# Altium footprint library Altium LCOGT PCB LIB.PCBLIB: 329 footprints (part 13 of 21)
Each footprint in its own frame and in the unit in brackets; x right, y up, seen from the top. Pads: shape width x height; smd on the part's side, far side on the other; paste and mask are expansions set on the pad; w line width, h text height; cw(c..) or ccw(c..) is an arc to the next point about the centre after c.
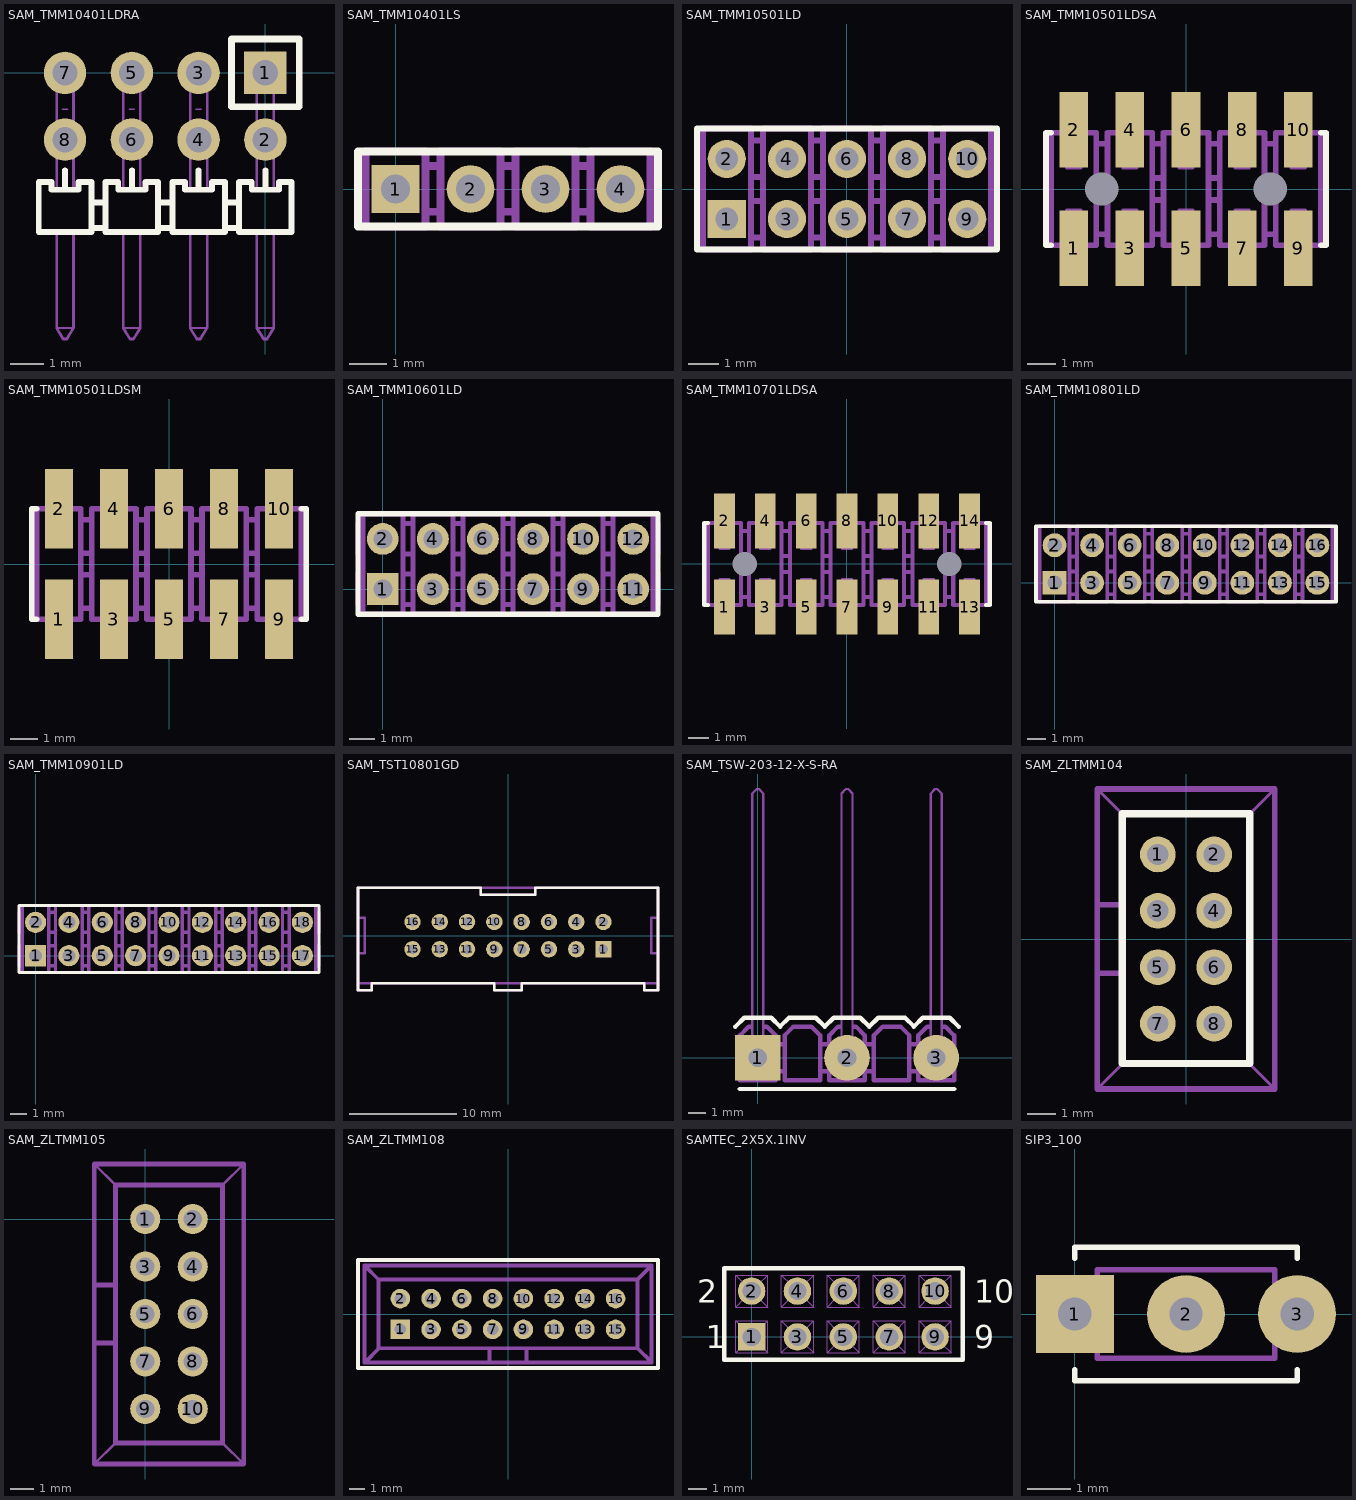
[diagram p12: the footprints below, top view; thin cyan lines are the x and y axes]

## SAM_TMM10401LDRA [mm]
pads (8):
  rect 1.27x1.27 hole 0.762: 1(0,0)
  round 1.27 hole 0.762: 2(0,-2) 3(-2,0) 4(-2,-2) 5(-4,0) 6(-4,-2) 7(-6,0) 8(-6,-2)
TopOverlay:
  lines w0.178: -6,-3.499 -6,-2.914 ; -5.213,-4.642 -4.791,-4.642 ; -5.213,-3.88 -4.791,-3.88 ; -4,-3.499 -4,-2.914 ; -3.213,-4.642 -2.791,-4.642 ; -3.213,-3.88 -2.791,-3.88 ; -2,-3.499 -2,-2.914 ; -1.213,-4.642 -0.791,-4.642 ; -1.213,-3.88 -0.791,-3.88 ; 0,-3.499 0,-2.914 ; -6.787,-4.769 -5.213,-4.769 -5.213,-3.27 -5.594,-3.27 -5.594,-3.499 -6.406,-3.499 -6.406,-3.27 -6.787,-3.27 -6.787,-4.769 ; -4.787,-4.769 -3.213,-4.769 -3.213,-3.27 -3.594,-3.27 -3.594,-3.499 -4.406,-3.499 -4.406,-3.27 -4.787,-3.27 -4.787,-4.769 ; -2.787,-4.769 -1.213,-4.769 -1.213,-3.27 -1.594,-3.27 -1.594,-3.499 -2.406,-3.499 -2.406,-3.27 -2.787,-3.27 -2.787,-4.769 ; -0.787,-4.769 0.787,-4.769 0.787,-3.27 0.406,-3.27 0.406,-3.499 -0.406,-3.499 -0.406,-3.27 -0.787,-3.27 -0.787,-4.769
  lines w0.203: -1.016,-1.016 -1.016,1.016 1.016,1.016 1.016,-1.016 -1.016,-1.016
Mechanical3:
  lines w0.051: -6.254,-7.639 -5.746,-7.639 ; -6.076,-1.086 -5.924,-1.086 ; -4.254,-7.639 -3.746,-7.639 ; -4.076,-1.086 -3.924,-1.086 ; -2.254,-7.639 -1.746,-7.639 ; -2.076,-1.086 -1.924,-1.086 ; -0.254,-7.639 0.254,-7.639 ; -0.076,-1.086 0.076,-1.086
  lines w0.076: -6.254,-4.769 -6.254,-7.639 -6.051,-7.969 -5.949,-7.969 -5.746,-7.639 -5.746,-4.769 ; -6.254,-3.499 -6.254,0.261 -5.746,0.261 -5.746,-3.499 ; -4.254,-4.769 -4.254,-7.639 -4.051,-7.969 -3.949,-7.969 -3.746,-7.639 -3.746,-4.769 ; -4.254,-3.499 -4.254,0.261 -3.746,0.261 -3.746,-3.499 ; -2.254,-4.769 -2.254,-7.639 -2.051,-7.969 -1.949,-7.969 -1.746,-7.639 -1.746,-4.769 ; -2.254,-3.499 -2.254,0.261 -1.746,0.261 -1.746,-3.499 ; -0.254,-4.769 -0.254,-7.639 -0.051,-7.969 0.051,-7.969 0.254,-7.639 0.254,-4.769 ; -0.254,-3.499 -0.254,0.261 0.254,0.261 0.254,-3.499
  lines w0.127: -5.213,-4.642 -4.791,-4.642 ; -5.213,-3.88 -4.791,-3.88 ; -3.213,-4.642 -2.791,-4.642 ; -3.213,-3.88 -2.791,-3.88 ; -1.213,-4.642 -0.791,-4.642 ; -1.213,-3.88 -0.791,-3.88 ; -6.787,-4.769 -5.213,-4.769 -5.213,-3.27 -5.594,-3.27 -5.594,-3.499 -6.406,-3.499 -6.406,-3.27 -6.787,-3.27 -6.787,-4.769 ; -4.787,-4.769 -3.213,-4.769 -3.213,-3.27 -3.594,-3.27 -3.594,-3.499 -4.406,-3.499 -4.406,-3.27 -4.787,-3.27 -4.787,-4.769 ; -2.787,-4.769 -1.213,-4.769 -1.213,-3.27 -1.594,-3.27 -1.594,-3.499 -2.406,-3.499 -2.406,-3.27 -2.787,-3.27 -2.787,-4.769 ; -0.787,-4.769 0.787,-4.769 0.787,-3.27 0.406,-3.27 0.406,-3.499 -0.406,-3.499 -0.406,-3.27 -0.787,-3.27 -0.787,-4.769

## SAM_TMM10401LS [mil]
pads (4):
  rect 50x50 hole 30: 1(0,0)
  round 50 hole 30: 2(78.74,0) 3(157.48,0) 4(236.22,0)
TopOverlay:
  lines w8: -39.37,-39.37 275.59,-39.37 275.59,39.37 -39.37,39.37 -39.37,-39.37
Mechanical3:
  lines w2: -10,-10 -3,-3 ; -10,10 -3,3 ; 10,-10 3,-3 ; 10,10 3,3 ; 68.74,-10 75.74,-3 ; 68.74,10 75.74,3 ; 88.74,-10 81.74,-3 ; 88.74,10 81.74,3 ; 147.48,-10 154.48,-3 ; 147.48,10 154.48,3 ; 167.48,-10 160.48,-3 ; 167.48,10 160.48,3 ; 226.22,-10 233.22,-3 ; 226.22,10 233.22,3 ; 246.22,-10 239.22,-3 ; 246.22,10 239.22,3 ; -3,-3 -3,3 ; -3,-3 3,-3 ; -3,3 3,3 ; 3,-3 3,3 ; 75.74,-3 75.74,3 ; 75.74,-3 81.74,-3 ; 75.74,3 81.74,3 ; 81.74,-3 81.74,3 ; 154.48,-3 154.48,3 ; 154.48,-3 160.48,-3 ; 154.48,3 160.48,3 ; 160.48,-3 160.48,3 ; 233.22,-3 233.22,3 ; 233.22,-3 239.22,-3 ; 233.22,3 239.22,3 ; 239.22,-3 239.22,3
  lines w4: -10,-10 -10,10 10,10 10,-10 -10,-10 ; 68.74,-10 68.74,10 88.74,10 88.74,-10 68.74,-10 ; 147.48,-10 147.48,10 167.48,10 167.48,-10 147.48,-10 ; 226.22,-10 226.22,10 246.22,10 246.22,-10 226.22,-10
  lines w8: -31.5,-23.87 -39,-23.87 -39,24.13 -31.5,24.13 ; 31.5,-23.87 47.24,-23.87 ; 31.5,24.13 47.24,24.13 ; 110.24,-23.87 125.98,-23.87 ; 110.24,24.13 125.98,24.13 ; 188.98,-23.87 204.72,-23.87 ; 188.98,24.13 204.72,24.13 ; 267.72,-23.87 275.22,-23.87 275.22,24.13 267.72,24.13 ; -31.5,-39.63 -31.5,39.63 31.5,39.63 31.5,-39.63 -31.5,-39.63 ; 47.24,-39.63 47.24,39.63 110.24,39.63 110.24,-39.63 47.24,-39.63 ; 125.98,-39.63 125.98,39.63 188.98,39.63 188.98,-39.63 125.98,-39.63 ; 204.72,-39.63 204.72,39.63 267.72,39.63 267.72,-39.63 204.72,-39.63

## SAM_TMM10501LD [mm]
pads (10):
  rect 1.27x1.27 hole 0.762: 1(-4,-1)
  round 1.27 hole 0.762: 2(-4,1) 3(-2,-1) 4(-2,1) 5(0,-1) 6(0,1) 7(2,-1) 8(2,1) 9(4,-1) 10(4,1)
TopOverlay:
  lines w0.203: -4.991,-2.007 -4.991,2.007 4.991,2.007 4.991,-2.007 -4.991,-2.007
Mechanical3:
  drawing of 168 lines, arcs and shapes, not listed

## SAM_TMM10501LDSA [mil]
pads (12):
  rect 40x106 smd: 1(-157.48,-83) 2(-157.48,83) 3(-78.74,-83) 4(-78.74,83) 5(0,-83) 6(0,83) 7(78.74,-83) 8(78.74,83) 9(157.48,-83) 10(157.48,83)
  round 20 hole 47 unplated: ""(-118.11,0) ""(118.11,0)
TopOverlay:
  lines w8: -189.48,-79 -196.5,-79 -196.5,79 -189.48,79 ; 189.52,-79 196.5,-79 196.5,79 189.52,79
Mechanical3:
  drawing of 228 lines, arcs and shapes, not listed

## SAM_TMM10501LDSM [mil]
pads (10):
  rect 40x114 smd: 1(-157.48,-79) 2(-157.48,79) 3(-78.74,-79) 4(-78.74,79) 5(0,-79) 6(0,79) 7(78.74,-79) 8(78.74,79) 9(157.48,-79) 10(157.48,79)
TopOverlay:
  lines w8: -189.48,-79 -196.5,-79 -196.5,79 -189.48,79 ; 189.52,-79 196.5,-79 196.5,79 189.52,79
Mechanical3:
  drawing of 228 lines, arcs and shapes, not listed

## SAM_TMM10601LD [mm]
pads (12):
  rect 1.27x1.27 hole 0.762: 1(0,0)
  round 1.27 hole 0.762: 2(0,2) 3(2,0) 4(2,2) 5(4,0) 6(4,2) 7(6,0) 8(6,2) 9(8,0) 10(8,2) 11(10,0) 12(10,2)
TopOverlay:
  lines w0.203: -0.991,-1.007 -0.991,3.007 10.991,3.007 10.991,-1.007 -0.991,-1.007
Mechanical3:
  drawing of 200 lines, arcs and shapes, not listed

## SAM_TMM10701LDSA [mil]
pads (16):
  rect 40x106 smd: 1(-236.22,-83) 2(-236.22,83) 3(-157.48,-83) 4(-157.48,83) 5(-78.74,-83) 6(-78.74,83) 7(0,-83) 8(0,83) 9(78.74,-83) 10(78.74,83) 11(157.48,-83) 12(157.48,83) 13(236.22,-83) 14(236.22,83)
  round 20 hole 47 unplated: ""(-196.85,0) ""(196.85,0)
TopOverlay:
  lines w8: -268.22,-79 -275.24,-79 -275.24,79 -268.22,79 ; 268.26,-79 275.24,-79 275.24,79 268.26,79
Mechanical3:
  drawing of 316 lines, arcs and shapes, not listed

## SAM_TMM10801LD [mil]
pads (16):
  rect 50x50 hole 30: 1(0,0)
  round 50 hole 30: 2(0,78.74) 3(78.74,0) 4(78.74,78.74) 5(157.48,0) 6(157.48,78.74) 7(236.22,0) 8(236.22,78.74) 9(314.96,0) 10(314.96,78.74) 11(393.7,0) 12(393.7,78.74) 13(472.44,0) 14(472.44,78.74) 15(551.18,0) 16(551.18,78.74)
TopOverlay:
  lines w8: -39.02,-39.63 -39.02,118.37 590.2,118.37 590.2,-39.63 -39.02,-39.63
Mechanical3:
  drawing of 264 lines, arcs and shapes, not listed

## SAM_TMM10901LD [mm]
pads (18):
  rect 1.27x1.27 hole 0.762: 1(0,0)
  round 1.27 hole 0.762: 2(0,2) 3(2,0) 4(2,2) 5(4,0) 6(4,2) 7(6,0) 8(6,2) 9(8,0) 10(8,2) 11(10,0) 12(10,2) 13(12,0) 14(12,2) 15(14,0) 16(14,2) 17(16,0) 18(16,2)
TopOverlay:
  lines w0.203: -0.991,-1.007 16.991,-1.007 16.991,3.007 -0.991,3.007 -0.991,-1.007
Mechanical3:
  drawing of 298 lines, arcs and shapes, not listed

## SAM_TST10801GD [mil] "Shrouded Header 100mil 8 x 2"
height 350
pads (16):
  rect 60x60 hole 35: 1(350,-50)
  round 60 hole 35: 2(350,50) 3(250,-50) 4(250,50) 5(150,-50) 6(150,50) 7(50,-50) 8(50,50) 9(-50,-50) 10(-50,50) 11(-150,-50) 12(-150,50) 13(-250,-50) 14(-250,50) 15(-350,-50) 16(-350,50)
TopOverlay:
  lines w10: -550,-200 -550,175 -100,175 -100,150 100,150 100,175 550,175 550,-200 500,-200 500,-175 50,-175 50,-200 -50,-200 -50,-175 -500,-175 -500,-200 -550,-200
Mechanical3:
  lines w10: -550,-65 -525,-65 -525,65 -550,65 ; -500,-175 -500,-200 -550,-200 -550,-175 ; -100,175 -100,150 100,150 100,175 ; -50,-175 -50,-200 50,-200 50,-175 ; 500,-175 500,-200 550,-200 550,-175 ; 550,-65 525,-65 525,65 550,65 ; -550,-175 -550,175 550,175 550,-175 ; -550,-175 0,-175 550,-175

## SAM_TSW-203-12-X-S-RA [mil]
pads (3):
  rect 102x102 hole 42: 1(0,0)
  round 102 hole 42: 2(200,0) 3(400,0)
TopOverlay:
  lines w10: -50,70 -30,90 30,90 50,70 70,90 130,90 150,70 170,90 230,90 250,70 270,90 330,90 350,70 370,90 430,90 450,70 ; -40,-70 440,-70
Mechanical3:
  lines w5: 0,602.5 -2.5,602.5 ; 200,602.5 197.5,602.5 ; 400,602.5 397.5,602.5 ; -12.5,592.5 -2.5,602.5 ; -12.5,592.5 -12.5,12.5 -12.5,-12.5 12.5,-12.5 12.5,12.5 12.5,592.5 2.5,602.5 -2.5,602.5 ; -12.5,592.5 -2.5,602.5 ; 187.5,592.5 197.5,602.5 ; 187.5,592.5 187.5,12.5 187.5,-12.5 212.5,-12.5 212.5,12.5 212.5,592.5 202.5,602.5 197.5,602.5 ; 187.5,592.5 197.5,602.5 ; 387.5,592.5 397.5,602.5 ; 387.5,592.5 387.5,12.5 387.5,-12.5 412.5,-12.5 412.5,12.5 412.5,592.5 402.5,602.5 397.5,602.5 ; 387.5,592.5 397.5,602.5
  lines w10: -15,70 -20,70 -40,50 -40,0 -40,-50 40,-50 40,0 40,50 20,70 15,70 ; 40,-30 50,-30 60,-30 ; 40,30 50,30 60,30 ; 140,-30 150,-30 160,-30 ; 140,30 150,30 160,30 ; 185,70 180,70 160,50 160,0 160,-50 240,-50 240,0 240,50 220,70 215,70 ; 240,-30 250,-30 260,-30 ; 240,30 250,30 260,30 ; 340,-30 350,-30 360,-30 ; 340,30 350,30 360,30 ; 385,70 380,70 360,50 360,0 360,-50 440,-50 440,0 440,50 420,70 415,70 ; 60,-50 60,0 60,50 80,70 120,70 140,50 140,0 140,-50 60,-50 ; 260,-50 260,0 260,50 280,70 320,70 340,50 340,0 340,-50 260,-50

## SAM_ZLTMM104 [mm]
pads (8):
  round 1.27 hole 0.762: 1(-1,3) 2(1,3) 3(-1,1) 4(1,1) 5(-1,-1) 6(1,-1) 7(-1,-3) 8(1,-3)
TopOverlay:
  lines w0.254: -2.261,-4.42 2.261,-4.42 2.261,4.445 -1.651,4.445 -2.261,4.445 -2.261,4.394 -2.261,-4.42
Mechanical3:
  lines w0.051: -1.254,-3.254 -1.076,-3.076 ; -1.254,-2.746 -1.076,-2.924 ; -1.254,-1.254 -1.076,-1.076 ; -1.254,-0.746 -1.076,-0.924 ; -1.254,0.746 -1.076,0.924 ; -1.254,1.254 -1.076,1.076 ; -1.254,2.746 -1.076,2.924 ; -1.254,3.254 -1.076,3.076 ; -0.746,-3.254 -0.924,-3.076 ; -0.746,-2.746 -0.924,-2.924 ; -0.746,-1.254 -0.924,-1.076 ; -0.746,-0.746 -0.924,-0.924 ; -0.746,0.746 -0.924,0.924 ; -0.746,1.254 -0.924,1.076 ; -0.746,2.746 -0.924,2.924 ; -0.746,3.254 -0.924,3.076 ; 0.746,-3.254 0.924,-3.076 ; 0.746,-2.746 0.924,-2.924 ; 0.746,-1.254 0.924,-1.076 ; 0.746,-0.746 0.924,-0.924 ; 0.746,0.746 0.924,0.924 ; 0.746,1.254 0.924,1.076 ; 0.746,2.746 0.924,2.924 ; 0.746,3.254 0.924,3.076 ; 1.254,-3.254 1.076,-3.076 ; 1.254,-2.746 1.076,-2.924 ; 1.254,-1.254 1.076,-1.076 ; 1.254,-0.746 1.076,-0.924 ; 1.254,0.746 1.076,0.924 ; 1.254,1.254 1.076,1.076 ; 1.254,2.746 1.076,2.924 ; 1.254,3.254 1.076,3.076 ; -1.076,-3.076 -0.924,-3.076 ; -1.076,-3.076 -1.076,-2.924 ; -1.076,-2.924 -0.924,-2.924 ; -1.076,-1.076 -0.924,-1.076 ; -1.076,-1.076 -1.076,-0.924 ; -1.076,-0.924 -0.924,-0.924 ; -1.076,0.924 -0.924,0.924 ; -1.076,0.924 -1.076,1.076 ; -1.076,1.076 -0.924,1.076 ; -1.076,2.924 -0.924,2.924 ; -1.076,2.924 -1.076,3.076 ; -1.076,3.076 -0.924,3.076 ; -0.924,-3.076 -0.924,-2.924 ; -0.924,-1.076 -0.924,-0.924 ; -0.924,0.924 -0.924,1.076 ; -0.924,2.924 -0.924,3.076 ; 0.924,-3.076 1.076,-3.076 ; 0.924,-3.076 0.924,-2.924 ; 0.924,-2.924 1.076,-2.924 ; 0.924,-1.076 1.076,-1.076 ; 0.924,-1.076 0.924,-0.924 ; 0.924,-0.924 1.076,-0.924 ; 0.924,0.924 1.076,0.924 ; 0.924,0.924 0.924,1.076 ; 0.924,1.076 1.076,1.076 ; 0.924,2.924 1.076,2.924 ; 0.924,2.924 0.924,3.076 ; 0.924,3.076 1.076,3.076 ; 1.076,-3.076 1.076,-2.924 ; 1.076,-1.076 1.076,-0.924 ; 1.076,0.924 1.076,1.076 ; 1.076,2.924 1.076,3.076
  lines w0.102: -3.15,-5.325 -2.261,-4.436 ; -3.15,5.325 -2.261,4.436 ; 2.261,-4.436 3.15,-5.325 ; 2.261,4.436 3.15,5.325 ; -1.254,-3.254 -1.254,-2.746 -0.746,-2.746 -0.746,-3.254 -1.254,-3.254 ; -1.254,-1.254 -1.254,-0.746 -0.746,-0.746 -0.746,-1.254 -1.254,-1.254 ; -1.254,0.746 -1.254,1.254 -0.746,1.254 -0.746,0.746 -1.254,0.746 ; -1.254,2.746 -1.254,3.254 -0.746,3.254 -0.746,2.746 -1.254,2.746 ; 0.746,-3.254 1.254,-3.254 1.254,-2.746 0.746,-2.746 0.746,-3.254 ; 0.746,-1.254 1.254,-1.254 1.254,-0.746 0.746,-0.746 0.746,-1.254 ; 0.746,0.746 1.254,0.746 1.254,1.254 0.746,1.254 0.746,0.746 ; 0.746,2.746 1.254,2.746 1.254,3.254 0.746,3.254 0.746,2.746
  lines w0.203: -3.15,-5.325 3.15,-5.325 ; -3.15,-5.309 -3.15,5.325 3.15,5.325 3.15,-5.309 ; -3.15,-1.219 -2.261,-1.219 ; -3.15,1.219 -2.261,1.219 ; -2.261,-4.436 2.261,-4.436 ; -2.261,-4.42 -2.261,4.436 2.261,4.436 2.261,-4.42

## SAM_ZLTMM105 [mm]
pads (10):
  round 1.27 hole 0.762: 1(0,0) 2(2,0) 3(0,-2) 4(2,-2) 5(0,-4) 6(2,-4) 7(0,-6) 8(2,-6) 9(0,-8) 10(2,-8)
Mechanical3:
  lines w0.051: -0.254,-8.254 -0.076,-8.076 ; -0.254,-7.746 -0.076,-7.924 ; -0.254,-6.254 -0.076,-6.076 ; -0.254,-5.746 -0.076,-5.924 ; -0.254,-4.254 -0.076,-4.076 ; -0.254,-3.746 -0.076,-3.924 ; -0.254,-2.254 -0.076,-2.076 ; -0.254,-1.746 -0.076,-1.924 ; -0.254,-0.254 -0.076,-0.076 ; -0.254,0.254 -0.076,0.076 ; 0.254,-8.254 0.076,-8.076 ; 0.254,-7.746 0.076,-7.924 ; 0.254,-6.254 0.076,-6.076 ; 0.254,-5.746 0.076,-5.924 ; 0.254,-4.254 0.076,-4.076 ; 0.254,-3.746 0.076,-3.924 ; 0.254,-2.254 0.076,-2.076 ; 0.254,-1.746 0.076,-1.924 ; 0.254,-0.254 0.076,-0.076 ; 0.254,0.254 0.076,0.076 ; 1.746,-8.254 1.924,-8.076 ; 1.746,-7.746 1.924,-7.924 ; 1.746,-6.254 1.924,-6.076 ; 1.746,-5.746 1.924,-5.924 ; 1.746,-4.254 1.924,-4.076 ; 1.746,-3.746 1.924,-3.924 ; 1.746,-2.254 1.924,-2.076 ; 1.746,-1.746 1.924,-1.924 ; 1.746,-0.254 1.924,-0.076 ; 1.746,0.254 1.924,0.076 ; 2.254,-8.254 2.076,-8.076 ; 2.254,-7.746 2.076,-7.924 ; 2.254,-6.254 2.076,-6.076 ; 2.254,-5.746 2.076,-5.924 ; 2.254,-4.254 2.076,-4.076 ; 2.254,-3.746 2.076,-3.924 ; 2.254,-2.254 2.076,-2.076 ; 2.254,-1.746 2.076,-1.924 ; 2.254,-0.254 2.076,-0.076 ; 2.254,0.254 2.076,0.076 ; -0.076,-8.076 -0.076,-7.924 ; -0.076,-8.076 0.076,-8.076 ; -0.076,-7.924 0.076,-7.924 ; -0.076,-6.076 -0.076,-5.924 ; -0.076,-6.076 0.076,-6.076 ; -0.076,-5.924 0.076,-5.924 ; -0.076,-4.076 -0.076,-3.924 ; -0.076,-4.076 0.076,-4.076 ; -0.076,-3.924 0.076,-3.924 ; -0.076,-2.076 -0.076,-1.924 ; -0.076,-2.076 0.076,-2.076 ; -0.076,-1.924 0.076,-1.924 ; -0.076,-0.076 -0.076,0.076 ; -0.076,-0.076 0.076,-0.076 ; -0.076,0.076 0.076,0.076 ; 0.076,-8.076 0.076,-7.924 ; 0.076,-6.076 0.076,-5.924 ; 0.076,-4.076 0.076,-3.924 ; 0.076,-2.076 0.076,-1.924 ; 0.076,-0.076 0.076,0.076 ; 1.924,-8.076 1.924,-7.924 ; 1.924,-8.076 2.076,-8.076 ; 1.924,-7.924 2.076,-7.924 ; 1.924,-6.076 1.924,-5.924 ; 1.924,-6.076 2.076,-6.076 ; 1.924,-5.924 2.076,-5.924 ; 1.924,-4.076 1.924,-3.924 ; 1.924,-4.076 2.076,-4.076 ; 1.924,-3.924 2.076,-3.924 ; 1.924,-2.076 1.924,-1.924 ; 1.924,-2.076 2.076,-2.076 ; 1.924,-1.924 2.076,-1.924 ; 1.924,-0.076 1.924,0.076 ; 1.924,-0.076 2.076,-0.076 ; 1.924,0.076 2.076,0.076 ; 2.076,-8.076 2.076,-7.924 ; 2.076,-6.076 2.076,-5.924 ; 2.076,-4.076 2.076,-3.924 ; 2.076,-2.076 2.076,-1.924 ; 2.076,-0.076 2.076,0.076
  lines w0.102: -2.15,-10.325 -1.261,-9.436 ; -2.15,2.325 -1.261,1.436 ; 3.261,-9.436 4.15,-10.325 ; 3.261,1.436 4.15,2.325 ; -0.254,-8.254 0.254,-8.254 0.254,-7.746 -0.254,-7.746 -0.254,-8.254 ; -0.254,-6.254 0.254,-6.254 0.254,-5.746 -0.254,-5.746 -0.254,-6.254 ; -0.254,-4.254 0.254,-4.254 0.254,-3.746 -0.254,-3.746 -0.254,-4.254 ; -0.254,-2.254 0.254,-2.254 0.254,-1.746 -0.254,-1.746 -0.254,-2.254 ; -0.254,-0.254 0.254,-0.254 0.254,0.254 -0.254,0.254 -0.254,-0.254 ; 1.746,-8.254 1.746,-7.746 2.254,-7.746 2.254,-8.254 1.746,-8.254 ; 1.746,-6.254 1.746,-5.746 2.254,-5.746 2.254,-6.254 1.746,-6.254 ; 1.746,-4.254 1.746,-3.746 2.254,-3.746 2.254,-4.254 1.746,-4.254 ; 1.746,-2.254 1.746,-1.746 2.254,-1.746 2.254,-2.254 1.746,-2.254 ; 1.746,-0.254 1.746,0.254 2.254,0.254 2.254,-0.254 1.746,-0.254
  lines w0.203: -2.15,-5.219 -1.261,-5.219 ; -2.15,-2.781 -1.261,-2.781 ; -2.15,-10.325 -2.15,2.325 4.15,2.325 4.15,-10.325 -2.15,-10.325 ; -1.261,-9.436 3.261,-9.436 3.261,1.436 -1.261,1.436 -1.261,-9.436

## SAM_ZLTMM108 [mm]
pads (16):
  rect 1.27x1.27 hole 0.762: 1(-7,-1)
  round 1.27 hole 0.762: 2(-7,1) 3(-5,-1) 4(-5,1) 5(-3,-1) 6(-3,1) 7(-1,-1) 8(-1,1) 9(1,-1) 10(1,1) 11(3,-1) 12(3,1) 13(5,-1) 14(5,1) 15(7,-1) 16(7,1)
TopOverlay:
  lines w0.254: -9.75,-3.5 -9.75,0 -9.75,3.5 9.75,3.5 9.75,-3.5 -9.75,-3.5
Mechanical3:
  lines w0.254: -9.3,-3.15 -8.375,-2.225 ; -8.425,-2.2 -8.425,0 -8.425,2.25 0,2.25 8.425,2.25 ; -8.4,-2.225 8.425,-2.225 ; -8.4,2.225 -9.325,3.15 ; -1.2,-3.15 -1.2,-2.7 ; -1.2,-2.725 -1.2,-2.225 ; 1.2,-3.15 1.2,-2.65 ; 1.2,-2.675 1.2,-2.225 ; 9.325,-3.125 8.425,-2.225 ; -9.325,3.15 9.25,3.15 9.325,3.15 ; -9.325,3.15 -9.325,0 -9.325,-3.15 9.325,-3.15 9.325,3.15 ; 8.425,-2.225 8.425,0 8.425,2.25 ; 8.425,2.25 9.325,3.15 ; 9.325,3.15 9.325,3.15

## SAMTEC_2X5X.1INV [mil]
pads (10):
  rect 60x60 hole 40: 1(0,0)
  round 60 hole 40: 2(0,100) 3(100,0) 4(100,100) 5(200,0) 6(200,100) 7(300,0) 8(300,100) 9(400,0) 10(400,100)
TopOverlay:
  lines w10: -60,-50 460,-50 460,150 -60,150 -60,-50
  text "9" at 485,-25 h50
  text "2" at -119,75 h50
  text "1" at -100,-25 h50
  text "10" at 485,75 h50
Mechanical3:
  lines w2: -15,-15 -35,-35 ; -15,15 -35,35 ; -15,85 -35,65 ; -15,115 -35,135 ; 15,-15 35,-35 ; 15,15 35,35 ; 15,85 35,65 ; 15,115 35,135 ; 85,-15 65,-35 ; 85,15 65,35 ; 85,85 65,65 ; 85,115 65,135 ; 115,-15 135,-35 ; 115,15 135,35 ; 115,85 135,65 ; 115,115 135,135 ; 185,-15 165,-35 ; 185,15 165,35 ; 185,85 165,65 ; 185,115 165,135 ; 215,-15 235,-35 ; 215,15 235,35 ; 215,85 235,65 ; 215,115 235,135 ; 285,-15 265,-35 ; 285,15 265,35 ; 285,85 265,65 ; 285,115 265,135 ; 315,-15 335,-35 ; 315,15 335,35 ; 315,85 335,65 ; 315,115 335,135 ; 385,-15 365,-35 ; 385,15 365,35 ; 385,85 365,65 ; 385,115 365,135 ; 415,-15 435,-35 ; 415,15 435,35 ; 415,85 435,65 ; 415,115 435,135 ; -35,-35 -35,35 ; -35,-35 35,-35 ; -35,35 35,35 ; -35,65 -35,135 ; -35,65 35,65 ; -35,135 35,135 ; 35,-35 35,35 ; 35,65 35,135 ; 65,-35 65,35 ; 65,-35 135,-35 ; 65,35 135,35 ; 65,65 65,135 ; 65,65 135,65 ; 65,135 135,135 ; 135,-35 135,35 ; 135,65 135,135 ; 165,-35 165,35 ; 165,-35 235,-35 ; 165,35 235,35 ; 165,65 165,135 ; 165,65 235,65 ; 165,135 235,135 ; 235,-35 235,35 ; 235,65 235,135 ; 265,-35 265,35 ; 265,-35 335,-35 ; 265,35 335,35 ; 265,65 265,135 ; 265,65 335,65 ; 265,135 335,135 ; 335,-35 335,35 ; 335,65 335,135 ; 365,-35 365,35 ; 365,-35 435,-35 ; 365,35 435,35 ; 365,65 365,135 ; 365,65 435,65 ; 365,135 435,135 ; 435,-35 435,35 ; 435,65 435,135
  lines w4: -15,-15 15,-15 15,15 -15,15 -15,-15 ; -15,85 15,85 15,115 -15,115 -15,85 ; 85,-15 115,-15 115,15 85,15 85,-15 ; 85,85 115,85 115,115 85,115 85,85 ; 185,-15 215,-15 215,15 185,15 185,-15 ; 185,85 215,85 215,115 185,115 185,85 ; 285,-15 315,-15 315,15 285,15 285,-15 ; 285,85 315,85 315,115 285,115 285,85 ; 385,-15 415,-15 415,15 385,15 385,-15 ; 385,85 415,85 415,115 385,115 385,85
  lines w8: -60,-50 460,-50 460,150 -60,150 -60,-50

## SIP3_100 [mil] "SIP, 3P, 0.100\""
pads (3):
  rect 70x70 hole 30: 1(0,0)
  round 70 hole 30: 2(100,0) 3(200,0)
TopOverlay:
  lines w5: 0,-50 0,-60 200,-60 200,-50 ; 0,50 0,60 200,60 200,50
Mechanical3:
  lines w5: 20,-40 20,40 100,40 180,40 180,-40 20,-40